# EAGLE library part WT8266-S1 (library WT8266)
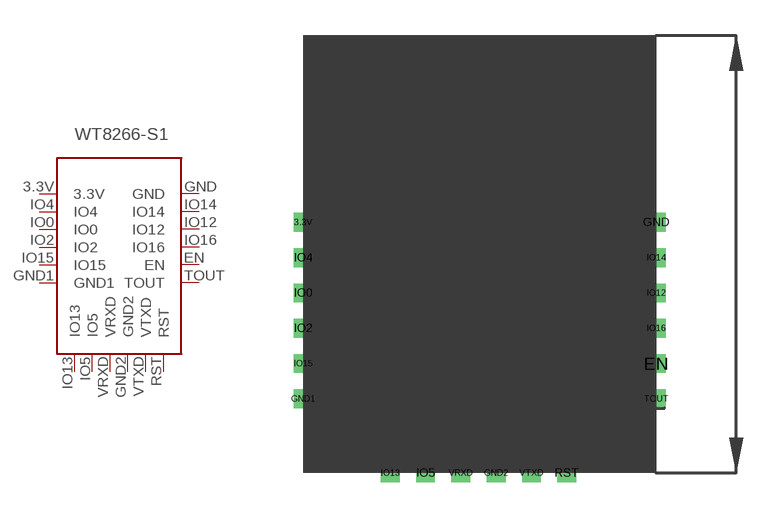
[diagram p0: symbol with the pads of WT8266-S1; footprint WT8266-S1]

Designator prefix -

## WT8266-S1  [WT8266-S1]
3.3V  3.3V
EN  EN
GND  GND
GND1  GND1
GND2  GND2
IO0  IO0
IO2  IO2
IO4  IO4
IO5  IO5
IO12  IO12
IO13  IO13
IO14  IO14
IO15  IO15
IO16  IO16
RST  RST
TOUT  TOUT
VRXD  VRXD
VTXD  VTXD

## Footprint WT8266-S1 (pad centres in mm)
drill 0.01 pad 0.8 square: 3.3V 0,10.65; EN 15,4.65; GND 15,10.65; GND1 0,3.15; GND2 8.2,0; IO0 0,7.65; IO2 0,6.15; IO4 0,9.15; IO5 5.2,0; IO12 15,7.65; IO13 3.7,0; IO14 15,9.15; IO15 0,4.65; IO16 15,6.15; RST 11.2,0; TOUT 15,3.15; VRXD 6.7,0; VTXD 9.7,0